# Altium schematic symbol library LTC3528.Schlib: 1 symbol
Pins are listed as number, name and electrical type; pins without a type are passive.

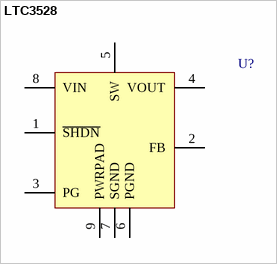
[diagram p0: symbol LTC3528]

## LTC3528
designator U?
pins: 1 ~{SHDN}, 2 FB (power), 3 PG, 4 VOUT, 5 SW, 6 PGND, 7 SGND, 8 VIN, 9 PWRPAD
1 alternate drawing of the same symbol